# Altium footprint library 51.PcbLib: 3 footprints
Each footprint in its own frame and in the unit in brackets; x right, y up, seen from the top. Pads: shape width x height; smd on the part's side, far side on the other; paste and mask are expansions set on the pad; w line width, h text height; cw(c..) or ccw(c..) is an arc to the next point about the centre after c.
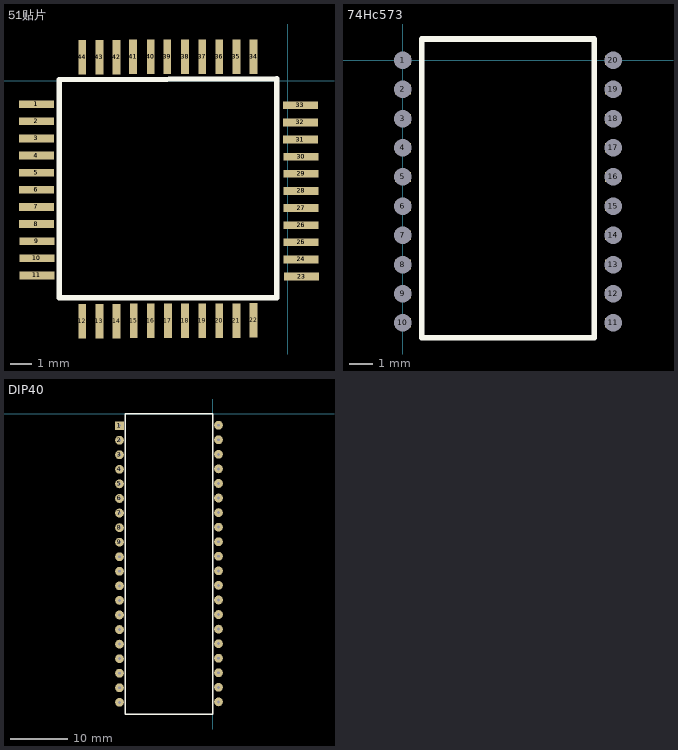
[diagram p0: the footprints below, top view; thin cyan lines are the x and y axes]

## 51贴片 [mil]
pads (77):
  rect 63x14 smd: 1(-455,-42) 1(-455,-42) 2(-455,-73) 2(-455,-73) 3(-455,-104) 3(-455,-104) 4(-455,-135) 4(-455,-135) 5(-455,-166) 5(-455,-166) 6(-455,-197) 6(-455,-197) 7(-455,-228) 7(-455,-228) 8(-455,-259) 8(-455,-259) 9(-454,-290) 9(-454,-290) 10(-454,-321) 10(-454,-321) 11(-454,-352) 11(-454,-352) 23(25,-354) 23(25,-354) 24(24,-323) 24(24,-323) 25(24,-292) 26(24,-292) 26(24,-261) 26(24,-261) 27(24,-230) 27(24,-230) 28(24,-199) 28(24,-199) 29(24,-168) 29(24,-168) 30(24,-137) 30(24,-137) 31(23,-106) 31(23,-106) 32(23,-75) 32(23,-75) 33(23,-44) 33(23,-44)
  rect 14x63 smd: 12(-372,-435) 13(-341,-435) 14(-310,-435) 15(-279,-434) 16(-248,-434) 17(-217,-434) 18(-186,-434) 19(-155,-434) 20(-124,-434) 21(-93,-434) 22(-62,-433) 34(-62,44) 34(-62,44) 35(-93,44) 35(-93,44) 36(-124,44) 36(-124,44) 37(-155,44) 37(-155,44) 38(-186,44) 38(-186,44) 39(-218,44) 39(-218,44) 40(-248,44) 40(-248,44) 41(-280,44) 41(-280,44) 42(-310,43) 42(-310,43) 43(-341,43) 43(-341,43) 44(-372,43) 44(-372,43)
Top Overlay:
  lines w10: -414,-392 -414,2.63 -20,3.63 -20,-392 -21,-392 -414,-392

## 74Hc573 [mm]
pads (20):
  rect 0.7x0.42 hole 0.762 square unplated: 1(0,0) 2(0,-1.27) 3(0,-2.54) 4(0,-3.81) 5(0,-5.08) 6(0,-6.35) 7(0,-7.62) 8(0,-8.89) 9(0,-10.16) 10(0,-11.43) 11(9.15,-11.43) 12(9.15,-10.16) 13(9.15,-8.89) 14(9.15,-7.62) 15(9.15,-6.35) 16(9.15,-5.08) 17(9.15,-3.81) 18(9.15,-2.54) 19(9.15,-1.27) 20(9.15,0)
Top Overlay:
  lines w0.254: 0.825,-12.075 0.825,0.925 8.325,0.925 8.325,-12.075 0.825,-12.075

## DIP40 [mil]
pads (40):
  rect 60x60 hole 20: 1(-640,-80)
  round 60 hole 20: 2(-640,-180) 3(-640,-280) 4(-640,-380) 5(-640,-480) 6(-640,-580) 7(-640,-680) 8(-640,-780) 9(-640,-880) 10(-640,-980) 11(-640,-1080) 12(-640,-1180) 13(-640,-1280) 14(-640,-1380) 15(-640,-1480) 16(-640,-1580) 17(-640,-1680) 18(-640,-1780) 19(-640,-1880) 20(-640,-1980) 21(40,-1977) 22(40,-1877) 23(40,-1777) 24(40,-1677) 25(40,-1577) 26(40,-1477) 27(40,-1377) 28(40,-1277) 29(40,-1177) 30(40,-1077) 31(40,-977) 32(40,-877) 33(40,-777) 34(40,-677) 35(40,-577) 36(40,-477) 37(40,-377) 38(40,-277) 39(40,-177) 40(40,-77)
Top Overlay:
  lines w10: -600,-2060 -600,-59 -600,0 0,0 0,-124 0,-2060 -600,-2060